# EAGLE library part LP2989 (library kanflo)
Ti LP2989 Micropower and Low-Noise, 500-mA Ultra Low-Dropout Regulator, datasheet <http://www.ti.com/lit/ds/symlink/lp2989.pdf>
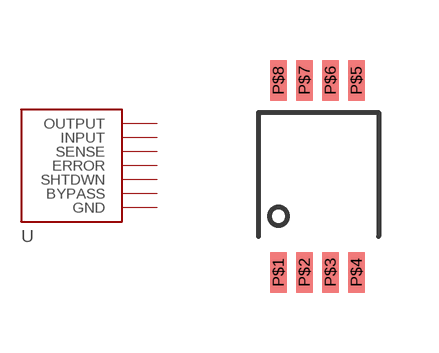
[diagram p8: symbol with the pads of LP2989-SO8; footprint LP2989-SO8]

Designator prefix U

## LP2989-SO8  [LP2989-SO8]
P$1  BYPASS  in
P$3  GND  pwr
P$4  INPUT  pwr
P$5  OUTPUT  pwr
P$6  SENSE  out
P$7  ERROR  out
P$8  SHTDWN  in

## Footprint LP2989-SO8 (pad centres in mm)
smd 0.41 x 1.02: P$1 0,0; P$2 0.65,0; P$3 1.3,0; P$4 1.95,0; P$5 1.95,4.8; P$6 1.3,4.8; P$7 0.65,4.8; P$8 0,4.8